# Altium integrated library 管.IntLib: 2 symbols
Pins are listed as number, name and electrical type; pins without a type are passive.

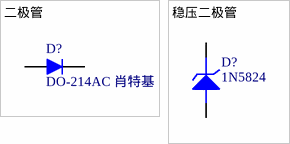
[diagram p0: symbols 二极管 to 稳压二极管]

## 二极管
designator D?, comment DO-214AC 肖特基
footprint DO-214AC
footprint 大
pins: 1 A, 2 K

## 稳压二极管
designator D?, comment 1N5824
footprint LL34
footprint DO-35
pins: 1 A, 2 K